# Altium footprint library 0603CS.PcbLib: 1 footprints
Each footprint in its own frame and in the unit in brackets; x right, y up, seen from the top. Pads: shape width x height; smd on the part's side, far side on the other; paste and mask are expansions set on the pad; w line width, h text height; cw(c..) or ccw(c..) is an arc to the next point about the centre after c.
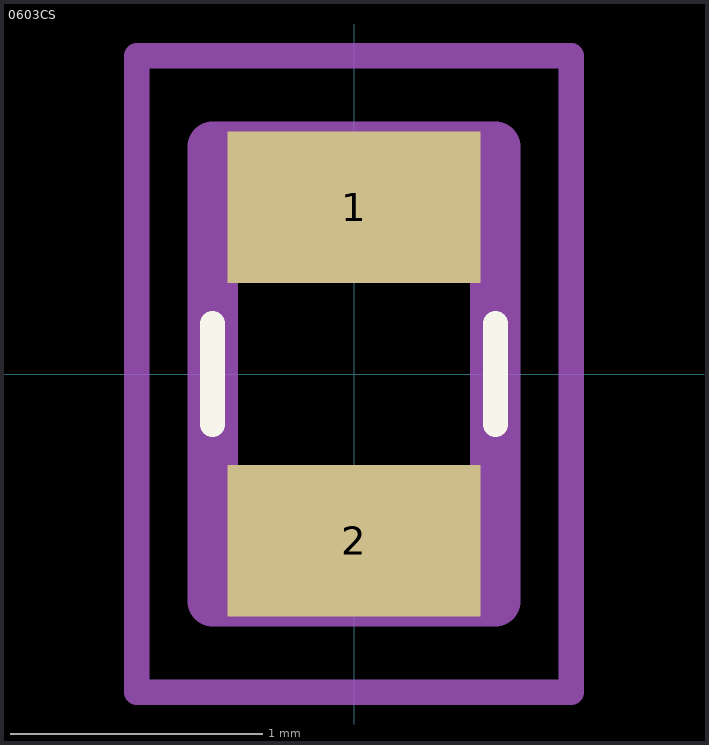
[diagram p0: the footprint, top view; thin cyan lines are the x and y axes]

## 0603CS [mm]
pads (2):
  rect 1x0.6 smd: 1(0,0.66) 2(0,-0.66)
Top Overlay:
  lines w0.1: -0.56,-0.2 -0.56,0.2 ; 0.56,-0.2 0.56,0.2
Mechanical 13:
  lines w0.2: -0.56,-0.9 -0.56,0.9 0.56,0.9 0.56,-0.9 -0.56,-0.9
Mechanical 15:
  lines w0.1: -0.86,-1.26 -0.86,1.26 0.86,1.26 0.86,-1.26 -0.86,-1.26
3D body "0603CS-6N8XJLU.stp": height 1.02, standoff 0, extent -0.56,-0.9 0.56,0.9